# Altium footprint library 高通MSM8916 原理图+PCB Layout_QRD8916_2-4-2_half type_main board_V1.01.PcbLib: 111 footprints (part 4 of 7)
Each footprint in its own frame and in the unit in brackets; x right, y up, seen from the top. Pads: shape width x height; smd on the part's side, far side on the other; paste and mask are expansions set on the pad; w line width, h text height; cw(c..) or ccw(c..) is an arc to the next point about the centre after c.
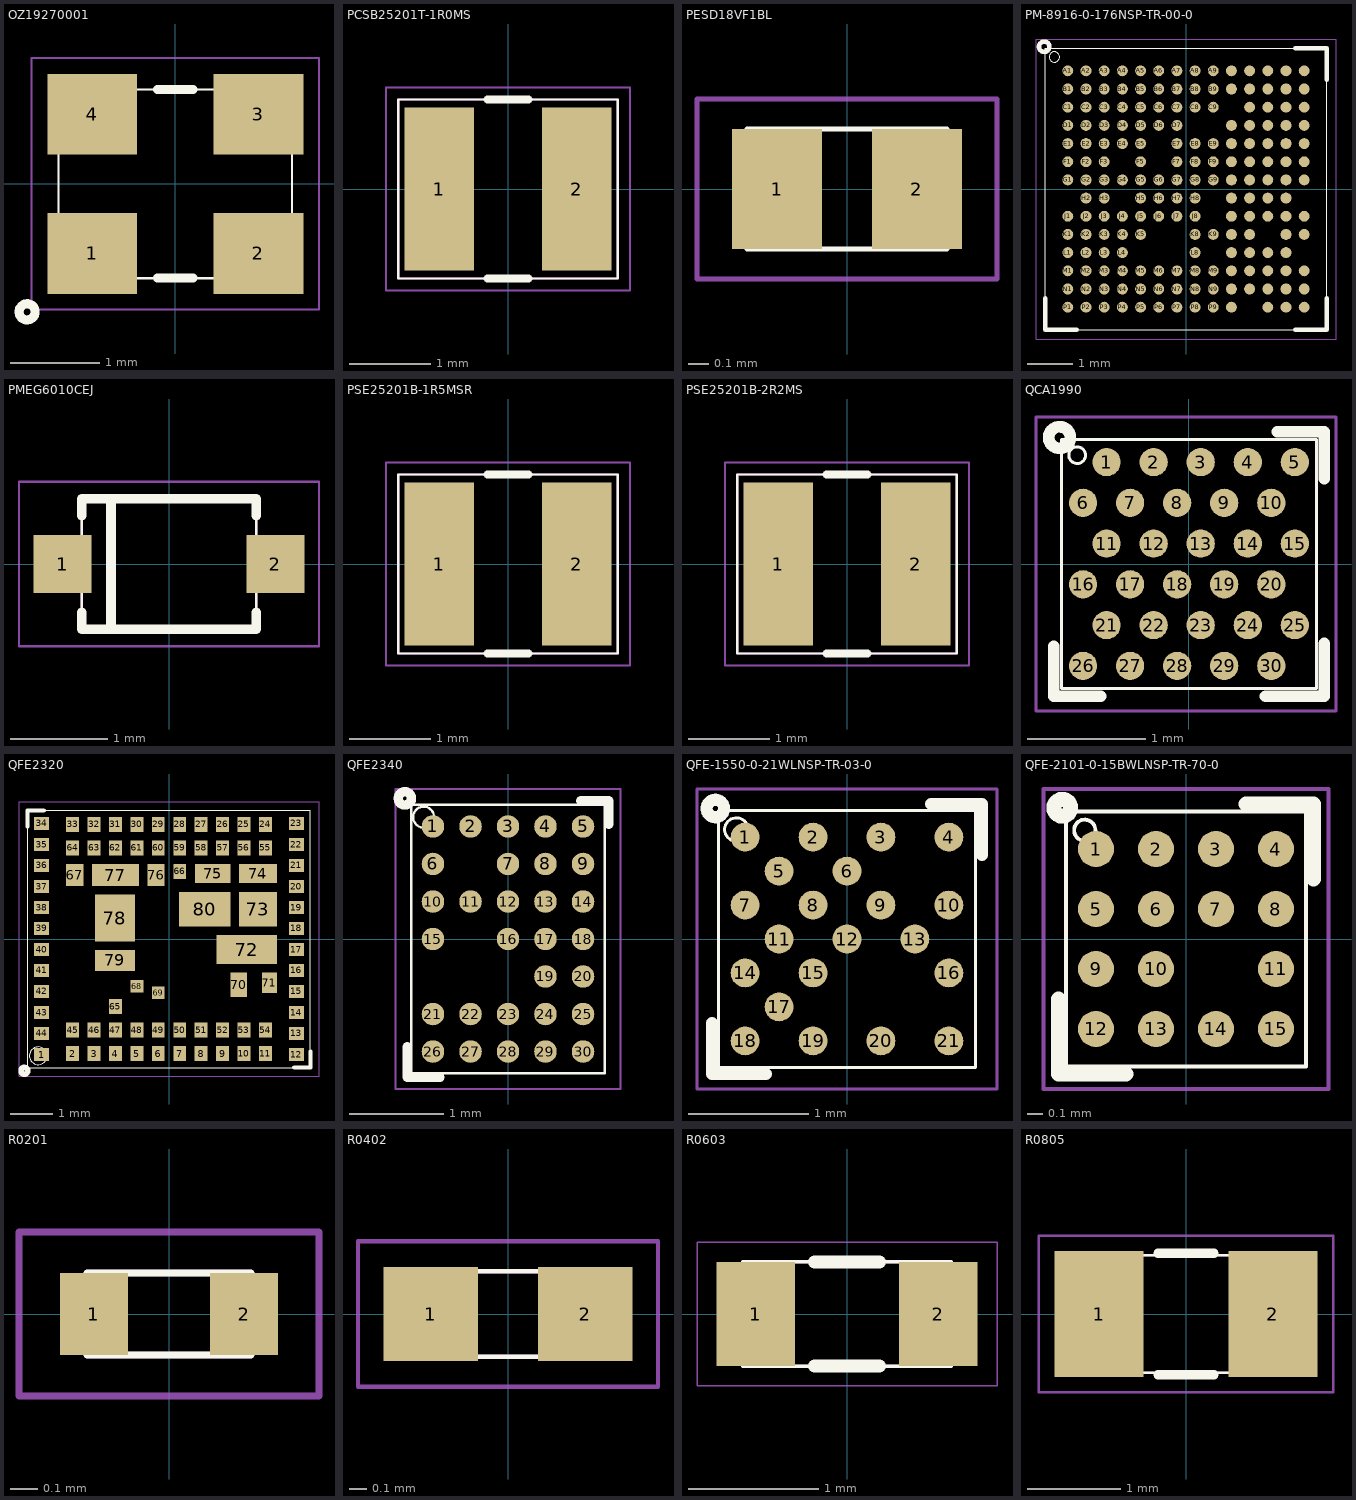
[diagram p3: the footprints below, top view; thin cyan lines are the x and y axes]

## OZ19270001 [mm]
height 1
pads (4):
  rect 1x0.9 smd mask+0.05: 1(-0.925,-0.775) 2(0.925,-0.775) 3(0.925,0.775) 4(-0.925,0.775)
Top Overlay:
  circle w0.025: c-1.05,-0.825 r0.146
  circle w0.1: c-1.65,-1.425 r0.09
  lines w0.025: -1.3,-1.05 1.3,-1.05 1.3,1.05 -1.3,1.05 -1.3,-1.05
  lines w0.1: -0.2,-1.05 0.2,-1.05 ; -0.2,1.05 0.2,1.05
Top Assembly:
  lines w0.025: -1.6,-1.4 1.6,-1.4 1.6,1.4 -1.6,1.4 -1.6,-1.4

## PCSB25201T-1R0MS [mm]
height 1.02
pads (2):
  rect 0.85x2 smd mask+0.05: 1(-0.845,0) 2(0.845,0)
Top Overlay:
  lines w0.025: -1.35,-1.1 1.35,-1.1 1.35,1.1 -1.35,1.1 -1.35,-1.1
  lines w0.1: -0.25,-1.1 0.25,-1.1 ; -0.25,1.1 0.25,1.1
Top Paste:
  region: -1.2,-0.95 -0.5,-0.95 -0.5,-0.1 -1.2,-0.1
  region: -1.2,0.1 -0.5,0.1 -0.5,0.95 -1.2,0.95
  region: 0.5,0.1 1.2,0.1 1.2,0.95 0.5,0.95
  region: 0.5,-0.95 1.2,-0.95 1.2,-0.1 0.5,-0.1
Top Assembly:
  lines w0.025: -1.5,-1.25 1.5,-1.25 1.5,1.25 -1.5,1.25 -1.5,-1.25
Mechanical 9:
  lines w0.025: -1.35,-1.1 1.35,-1.1 1.35,1.1 -1.35,1.1 -1.35,-1.1

## PESD18VF1BL [mm]
height 0.5
pads (2):
  rect 0.45x0.6 smd paste-0.025 mask+0.05: 1(-0.35,0) 2(0.35,0)
Top Overlay:
  lines w0.025: -0.35,-0.3 -0.35,0.3 ; -0.22,-0.3 -0.22,0.3 ; -0.5,-0.3 0.5,-0.3 0.5,0.3 -0.5,0.3 -0.5,-0.3
Top Assembly:
  lines w0.025: -0.75,-0.45 0.75,-0.45 0.75,0.45 -0.75,0.45 -0.75,-0.45

## PM-8916-0-176NSP-TR-00-0 [mm]
height 0.86
pads (176):
  round 0.24 smd paste+0.005 mask+0.038: A1(-2.6,2.6) A2(-2.2,2.6) A3(-1.8,2.6) A4(-1.4,2.6) A5(-1,2.6) A6(-0.6,2.6) A7(-0.2,2.6) A8(0.2,2.6) A9(0.6,2.6) A10(1,2.6) A11(1.4,2.6) A12(1.8,2.6) A13(2.2,2.6) A14(2.6,2.6) B1(-2.6,2.2) B2(-2.2,2.2) B3(-1.8,2.2) B4(-1.4,2.2) B5(-1,2.2) B6(-0.6,2.2) B7(-0.2,2.2) B8(0.2,2.2) B9(0.6,2.2) B10(1,2.2) B11(1.4,2.2) B12(1.8,2.2) B13(2.2,2.2) B14(2.6,2.2) C1(-2.6,1.8) C2(-2.2,1.8) C3(-1.8,1.8) C4(-1.4,1.8) C5(-1,1.8) C6(-0.6,1.8) C7(-0.2,1.8) C8(0.2,1.8) C9(0.6,1.8) C11(1.4,1.8) C12(1.8,1.8) C13(2.2,1.8) C14(2.6,1.8) D1(-2.6,1.4) D2(-2.2,1.4) D3(-1.8,1.4) D4(-1.4,1.4) D5(-1,1.4) D6(-0.6,1.4) D7(-0.2,1.4) D10(1,1.4) D11(1.4,1.4) D12(1.8,1.4) D13(2.2,1.4) D14(2.6,1.4) E1(-2.6,1) E2(-2.2,1) E3(-1.8,1) E4(-1.4,1) E5(-1,1) E7(-0.2,1) E8(0.2,1) E9(0.6,1) E10(1,1) E11(1.4,1) E12(1.8,1) E13(2.2,1) E14(2.6,1) F1(-2.6,0.6) F2(-2.2,0.6) F3(-1.8,0.6) F5(-1,0.6) F7(-0.2,0.6) F8(0.2,0.6) F9(0.6,0.6) F10(1,0.6) F11(1.4,0.6) F12(1.8,0.6) F13(2.2,0.6) F14(2.6,0.6) G1(-2.6,0.2) G2(-2.2,0.2) G3(-1.8,0.2) G4(-1.4,0.2) G5(-1,0.2) G6(-0.6,0.2) G7(-0.2,0.2) G8(0.2,0.2) G9(0.6,0.2) G10(1,0.2) G11(1.4,0.2) G12(1.8,0.2) G13(2.2,0.2) G14(2.6,0.2) H2(-2.2,-0.2) H3(-1.8,-0.2) H5(-1,-0.2) H6(-0.6,-0.2) H7(-0.2,-0.2) H8(0.2,-0.2) H10(1,-0.2) H11(1.4,-0.2) H12(1.8,-0.2) H13(2.2,-0.2) J1(-2.6,-0.6) J2(-2.2,-0.6) J3(-1.8,-0.6) J4(-1.4,-0.6) J5(-1,-0.6) J6(-0.6,-0.6) J7(-0.2,-0.6) J8(0.2,-0.6) J10(1,-0.6) J11(1.4,-0.6) J12(1.8,-0.6) J13(2.2,-0.6) J14(2.6,-0.6) K1(-2.6,-1) K2(-2.2,-1) K3(-1.8,-1) K4(-1.4,-1) K5(-1,-1) K8(0.2,-1) K9(0.6,-1) K10(1,-1) K11(1.4,-1) K13(2.2,-1) K14(2.6,-1) L1(-2.6,-1.4) L2(-2.2,-1.4) L3(-1.8,-1.4) L4(-1.4,-1.4) L8(0.2,-1.4) L10(1,-1.4) L11(1.4,-1.4) L12(1.8,-1.4) L13(2.2,-1.4) M1(-2.6,-1.8) M2(-2.2,-1.8) M3(-1.8,-1.8) M4(-1.4,-1.8) M5(-1,-1.8) M6(-0.6,-1.8) M7(-0.2,-1.8) M8(0.2,-1.8) M9(0.6,-1.8) M10(1,-1.8) M11(1.4,-1.8) M12(1.8,-1.8) M13(2.2,-1.8) M14(2.6,-1.8) N1(-2.6,-2.2) N2(-2.2,-2.2) N3(-1.8,-2.2) N4(-1.4,-2.2) N5(-1,-2.2) N6(-0.6,-2.2) N7(-0.2,-2.2) N8(0.2,-2.2) N9(0.6,-2.2) N10(1,-2.2) N11(1.4,-2.2) N12(1.8,-2.2) N13(2.2,-2.2) N14(2.6,-2.2) P1(-2.6,-2.6) P2(-2.2,-2.6) P3(-1.8,-2.6) P4(-1.4,-2.6) P5(-1,-2.6) P6(-0.6,-2.6) P7(-0.2,-2.6) P8(0.2,-2.6) P9(0.6,-2.6) P10(1,-2.6) P12(1.8,-2.6) P13(2.2,-2.6) P14(2.6,-2.6)
Top Overlay:
  circle w0.1: c-3.12,3.13 r0.114
  circle w0.025: c-2.895,2.905 r0.114
  lines w0.025: -3.1,-3.1 3.1,-3.1 3.1,3.1 -3.1,3.1 -3.1,-3.1
  lines w0.1: -3.1,-2.4 -3.1,-3.1 -2.4,-3.1 ; 2.4,-3.1 3.1,-3.1 3.1,-2.4 ; 2.4,3.1 3.1,3.1 3.1,2.4
Top Assembly:
  lines w0.025: -3.3,-3.3 3.3,-3.3 3.3,3.3 -3.3,3.3 -3.3,-3.3

## PMEG6010CEJ [mm]
height 0.8
pads (2):
  rect 0.6x0.6 smd paste-0.05 mask+0.05: 1(-1.1,0) 2(1.1,0)
Top Overlay:
  lines w0.025: -0.6,-0.675 -0.6,0.675 ; -0.9,-0.675 0.9,-0.675 0.9,0.675 -0.9,0.675 -0.9,-0.675
  lines w0.1: -0.9,-0.5 -0.9,-0.675 0.9,-0.675 0.9,-0.5 ; -0.9,0.5 -0.9,0.675 0.9,0.675 0.9,0.5 ; -0.6,-0.675 -0.6,0.675
Top Assembly:
  lines w0.025: -1.55,-0.85 1.55,-0.85 1.55,0.85 -1.55,0.85 -1.55,-0.85
Mechanical 9:
  lines w0.025: -0.9,-0.675 0.9,-0.675 0.9,0.675 -0.9,0.675 -0.9,-0.675

## PSE25201B-1R5MSR [mm]
height 1.4
pads (2):
  rect 0.85x2 smd mask+0.05: 1(-0.845,0) 2(0.845,0)
Top Overlay:
  circle w0.025: c-1,0 r0.25
  lines w0.025: -1.35,-1.1 1.35,-1.1 1.35,1.1 -1.35,1.1 -1.35,-1.1
  lines w0.1: -0.25,-1.1 0.25,-1.1 ; -0.25,1.1 0.25,1.1
Top Paste:
  region: -1.2,-0.95 -0.5,-0.95 -0.5,-0.1 -1.2,-0.1
  region: -1.2,0.1 -0.5,0.1 -0.5,0.95 -1.2,0.95
  region: 0.5,0.1 1.2,0.1 1.2,0.95 0.5,0.95
  region: 0.5,-0.95 1.2,-0.95 1.2,-0.1 0.5,-0.1
Top Assembly:
  circle w0.025: c-1,0 r0.25
  lines w0.025: -1.5,-1.25 1.5,-1.25 1.5,1.25 -1.5,1.25 -1.5,-1.25
Mechanical 9:
  lines w0.025: -1.35,-1.1 1.35,-1.1 1.35,1.1 -1.35,1.1 -1.35,-1.1

## PSE25201B-2R2MS [mm]
height 1.2
pads (2):
  rect 0.85x2 smd mask+0.05: 1(-0.845,0) 2(0.845,0)
Top Overlay:
  circle w0.025: c-1,0 r0.25
  lines w0.025: -1.35,-1.1 1.35,-1.1 1.35,1.1 -1.35,1.1 -1.35,-1.1
  lines w0.1: -0.25,-1.1 0.25,-1.1 ; -0.25,1.1 0.25,1.1
Top Paste:
  region: -1.2,-0.95 -0.5,-0.95 -0.5,-0.1 -1.2,-0.1
  region: -1.2,0.1 -0.5,0.1 -0.5,0.95 -1.2,0.95
  region: 0.5,0.1 1.2,0.1 1.2,0.95 0.5,0.95
  region: 0.5,-0.95 1.2,-0.95 1.2,-0.1 0.5,-0.1
Top Assembly:
  circle w0.025: c-1,0 r0.25
  lines w0.025: -1.5,-1.25 1.5,-1.25 1.5,1.25 -1.5,1.25 -1.5,-1.25
Mechanical 9:
  lines w0.025: -1.35,-1.1 1.35,-1.1 1.35,1.1 -1.35,1.1 -1.35,-1.1

## QCA1990 [mm]
height 0.65
pads (30):
  round 0.24 smd paste+0.005 mask+0.038: 1(-0.7,0.866) 2(-0.3,0.866) 3(0.1,0.866) 4(0.5,0.866) 5(0.9,0.866) 6(-0.9,0.52) 7(-0.5,0.52) 8(-0.1,0.52) 9(0.3,0.52) 10(0.7,0.52) 11(-0.7,0.173) 12(-0.3,0.173) 13(0.1,0.173) 14(0.5,0.173) 15(0.9,0.173) 16(-0.9,-0.173) 17(-0.5,-0.173) 18(-0.1,-0.173) 19(0.3,-0.173) 20(0.7,-0.173) 21(-0.7,-0.52) 22(-0.3,-0.52) 23(0.1,-0.52) 24(0.5,-0.52) 25(0.9,-0.52) 26(-0.9,-0.866) 27(-0.5,-0.866) 28(-0.1,-0.866) 29(0.3,-0.866) 30(0.7,-0.866)
Top Overlay:
  circle w0.1: c-1.1,1.075 r0.092
  circle w0.025: c-0.95,0.925 r0.071
  lines w0.025: -1.085,-1.06 1.085,-1.06 1.085,1.06 -1.085,1.06 -1.085,-1.06
  lines w0.1: -1.15,-0.7 -1.15,-1.125 -0.75,-1.125 ; 0.65,-1.125 1.15,-1.125 1.15,-0.675 ; 0.75,1.125 1.15,1.125 1.15,0.725
Top Assembly:
  lines w0.025: -1.3,-1.25 1.25,-1.25 1.25,1.25 -1.3,1.25 -1.3,-1.25

## QFE2320 [mm]
height 0.85
pads (80):
  rect 0.35x0.3 smd mask+0.05: 1(-2.975,-2.695) 12(2.975,-2.695) 13(2.975,-2.205) 14(2.975,-1.715) 15(2.975,-1.225) 16(2.975,-0.735) 17(2.975,-0.245) 18(2.975,0.245) 19(2.975,0.735) 20(2.975,1.225) 21(2.975,1.715) 22(2.975,2.205) 23(2.975,2.695) 34(-2.975,2.695) 35(-2.975,2.205) 36(-2.975,1.715) 37(-2.975,1.225) 38(-2.975,0.735) 39(-2.975,0.245) 40(-2.975,-0.245) 41(-2.975,-0.735) 42(-2.975,-1.225) 43(-2.975,-1.715) 44(-2.975,-2.205)
  rect 0.3x0.35 smd mask+0.05: 2(-2.25,-2.675) 3(-1.75,-2.675) 4(-1.25,-2.675) 5(-0.75,-2.675) 6(-0.25,-2.675) 7(0.25,-2.675) 8(0.75,-2.675) 9(1.25,-2.675) 10(1.75,-2.675) 11(2.25,-2.675) 24(2.25,2.675) 25(1.75,2.675) 26(1.25,2.675) 27(0.75,2.675) 28(0.25,2.675) 29(-0.25,2.675) 30(-0.75,2.675) 31(-1.25,2.675) 32(-1.75,2.675) 33(-2.25,2.675) 45(-2.25,-2.125) 46(-1.75,-2.125) 47(-1.25,-2.125) 48(-0.75,-2.125) 49(-0.25,-2.125) 50(0.25,-2.125) 51(0.75,-2.125) 52(1.25,-2.125) 53(1.75,-2.125) 54(2.25,-2.125) 55(2.25,2.125) 56(1.75,2.125) 57(1.25,2.125) 58(0.75,2.125) 59(0.25,2.125) 60(-0.25,2.125) 61(-0.75,2.125) 62(-1.25,2.125) 63(-1.75,2.125) 64(-2.25,2.125) 65(-1.25,-1.575) 66(0.25,1.575)
  rect 0.4x0.514 smd mask+0.05: 67(-2.199,1.493) 76(-0.301,1.493)
  rrect0% 0.3x0.3 smd mask+0.05: 68(-0.75,-1.103) 69(-0.25,-1.253)
  rect 0.389x0.569 smd mask+0.05: 70(1.628,-1.068)
  rect 0.345x0.477 smd mask+0.05: 71(2.345,-1.022)
  rect 1.407x0.675 smd mask+0.05: 72(1.814,-0.246)
  rect 0.884x0.809 smd mask+0.05: 73(2.075,0.697)
  rect 0.884x0.449 smd mask+0.05: 74(2.075,1.526)
  rect 0.832x0.449 smd mask+0.05: 75(1.017,1.526)
  rect 1.098x0.514 smd mask+0.05: 77(-1.25,1.493)
  rect 0.932x1.092 smd mask+0.05: 78(-1.265,0.49)
  rect 0.932x0.488 smd mask+0.05: 79(-1.265,-0.5)
  rect 1.198x0.809 smd mask+0.05: 80(0.834,0.697)
Top Overlay:
  circle w0.025: c-3.05,-2.725 r0.206
  circle w0.127: c-3.375,-3.075 r0.079
  lines w0.025: -3.3,-3 3.3,-3 3.3,3 -3.3,3 -3.3,-3
  lines w0.1: -3.3,2.625 -3.3,3 -2.925,3 ; 2.925,-3 3.3,-3 3.3,-2.625
Top Assembly:
  lines w0.025: -3.5,-3.2 3.5,-3.2 3.5,3.2 -3.5,3.2 -3.5,-3.2

## QFE2340 [mm]
height 0.65
pads (30):
  round 0.24 smd mask+0.038: 1(-0.8,1.2) 2(-0.4,1.2) 3(0,1.2) 4(0.4,1.2) 5(0.8,1.2) 6(-0.8,0.8) 7(0,0.8) 8(0.4,0.8) 9(0.8,0.8) 10(-0.8,0.4) 11(-0.4,0.4) 12(0,0.4) 13(0.4,0.4) 14(0.8,0.4) 15(-0.8,0) 16(0,0) 17(0.4,0) 18(0.8,0) 19(0.4,-0.4) 20(0.8,-0.4) 21(-0.8,-0.8) 22(-0.4,-0.8) 23(0,-0.8) 24(0.4,-0.8) 25(0.8,-0.8) 26(-0.8,-1.2) 27(-0.4,-1.2) 28(0,-1.2) 29(0.4,-1.2) 30(0.8,-1.2)
Top Overlay:
  circle w0.025: c-0.9,1.3 r0.112
  circle w0.1: c-1.1,1.5 r0.071
  lines w0.025: -1.03,-1.43 1.03,-1.43 1.03,1.43 -1.03,1.43 -1.03,-1.43
  lines w0.1: -1.075,-1.15 -1.075,-1.475 -0.725,-1.475 ; 0.775,1.475 1.075,1.475 1.075,1.225
Top Assembly:
  lines w0.025: -1.2,-1.6 1.2,-1.6 1.2,1.6 -1.2,1.6 -1.2,-1.6

## QFE-1550-0-21WLNSP-TR-03-0 [mm]
height 0.55
pads (21):
  round 0.24 smd paste+0.005 mask+0.038: 1(-0.849,0.849) 2(-0.283,0.849) 3(0.283,0.849) 4(0.849,0.849) 5(-0.566,0.566) 6(0,0.566) 7(-0.849,0.283) 8(-0.283,0.283) 9(0.283,0.283) 10(0.849,0.283) 11(-0.566,0) 12(0,0) 13(0.566,0) 14(-0.849,-0.283) 15(-0.283,-0.283) 16(0.849,-0.283) 17(-0.566,-0.566) 18(-0.849,-0.849) 19(-0.283,-0.849) 20(0.283,-0.849) 21(0.849,-0.849)
Top Overlay:
  circle w0.1: c-1.097,1.088 r0.073
  circle w0.025: c-0.922,0.913 r0.097
  lines w0.025: -1.07,-1.07 1.07,-1.07 1.07,1.07 -1.07,1.07 -1.07,-1.07
  lines w0.1: -1.125,-0.7 -1.125,-1.125 -0.675,-1.125 ; 0.7,1.125 1.125,1.125 1.125,0.7
Top Assembly:
  lines w0.025: -1.25,-1.25 1.25,-1.25 1.25,1.25 -1.25,1.25 -1.25,-1.25

## QFE-2101-0-15BWLNSP-TR-70-0 [mm]
height 0.55
pads (15):
  round 0.24 smd paste+0.005 mask+0.038: 1(-0.6,0.6) 2(-0.2,0.6) 3(0.2,0.6) 4(0.6,0.6) 5(-0.6,0.2) 6(-0.2,0.2) 7(0.2,0.2) 8(0.6,0.2) 9(-0.6,-0.2) 10(-0.2,-0.2) 11(0.6,-0.2) 12(-0.6,-0.6) 13(-0.2,-0.6) 14(0.2,-0.6) 15(0.6,-0.6)
Top Overlay:
  circle w0.025: c-0.675,0.725 r0.071
  circle w0.1: c-0.825,0.875 r0.056
  lines w0.025: -0.8,-0.85 -0.8,0.85 0.8,0.85 0.8,-0.85 -0.8,-0.85
  lines w0.1: -0.85,-0.4 -0.85,-0.9 -0.4,-0.9 ; 0.4,0.9 0.85,0.9 0.85,0.4
Top Assembly:
  lines w0.025: -0.95,-1 -0.95,1 0.95,1 0.95,-1 -0.95,-1

## R0201 [mm]
height 0.33
pads (2):
  rect 0.25x0.3 smd mask+0.05: 1(-0.275,0) 2(0.275,0)
Top Overlay:
  lines w0.025: -0.3,-0.15 0.3,-0.15 0.3,0.15 -0.3,0.15 -0.3,-0.15
Top Assembly:
  lines w0.025: -0.55,-0.3 0.55,-0.3 0.55,0.3 -0.55,0.3 -0.55,-0.3
Mechanical 9:
  lines w0.025: -0.3,-0.15 0.3,-0.15 0.3,0.15 -0.3,0.15 -0.3,-0.15

## R0402 [mm]
height 0.5
pads (2):
  rect 0.55x0.55 smd paste-0.05 mask+0.05: 1(-0.45,0) 2(0.45,0)
Top Overlay:
  lines w0.025: -0.5,-0.25 -0.5,0.25 0.5,0.25 0.5,-0.25 -0.5,-0.25
Top Assembly:
  lines w0.025: -0.875,-0.425 0.875,-0.425 0.875,0.425 -0.875,0.425 -0.875,-0.425
Mechanical 9:
  lines w0.025: -0.5,-0.25 -0.5,0.25 0.5,0.25 0.5,-0.25 -0.5,-0.25

## R0603 [mm]
height 0.7
pads (2):
  rect 0.6x0.8 smd paste-0.05 mask+0.05: 1(-0.7,0) 2(0.7,0)
Top Overlay:
  lines w0.025: -0.8,-0.4 0.8,-0.4 0.8,0.4 -0.8,0.4 -0.8,-0.4
  lines w0.1: -0.25,-0.4 0.25,-0.4 ; -0.25,0.4 0.25,0.4
Top Assembly:
  lines w0.01: -1.15,-0.55 1.15,-0.55 1.15,0.55 -1.15,0.55 -1.15,-0.55
Mechanical 9:
  lines w0.025: -0.8,-0.4 0.8,-0.4 0.8,0.4 -0.8,0.4 -0.8,-0.4

## R0805 [mm]
height 0.85
pads (2):
  rect 0.95x1.35 smd paste-0.05 mask+0.05: 1(-0.93,0) 2(0.93,0)
Top Overlay:
  lines w0.025: -1.1,-0.63 1.1,-0.63 1.1,0.63 -1.1,0.63 -1.1,-0.63
  lines w0.1: -0.3,-0.65 0.3,-0.65 ; -0.3,0.65 0.3,0.65
Top Assembly:
  lines w0.025: -1.575,-0.838 1.575,-0.838 1.575,0.838 -1.575,0.838 -1.575,-0.838
Mechanical 9:
  lines w0.025: -1.1,-0.63 1.1,-0.63 1.1,0.63 -1.1,0.63 -1.1,-0.63